# Altium schematic symbol library 卡槽卡座.SchLib: 1 symbol
Pins are listed as number, name and electrical type; pins without a type are passive.

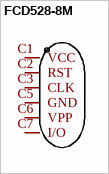
[diagram p0: symbol FCD528-8M]

## FCD528-8M
designator CARD?  (value not drawn)
Manufacturer: TXGA(特思嘉); Add into BOM: yes; Symbol: FCD528-8M; Device: FCD528-8M; LCSC Part Name: Mini SIM卡连接器 6触点(H1.8)(掀盖式); Supplier Part: C456406; Manufacturer Part: FCD528-8M; Supplier Footprint: SMD; JLCPCB Part Class: Extended Part; Datasheet: https://atta.szlcsc.com/upload/public/pdf/source/20191118/C456406_DD96F30E5E42D00446A5EA4509491B40.pdf; Supplier: LCSC; Convert to PCB: yes; Card Connection Mode: -; Card Type: -; Connector Type: -; Contact Material: -; Contact Plating: -
footprint SIM-SMD_FCD528-8M
pins: C1 VCC, C2 RST, C3 CLK, C5 GND, C6 VPP, C7 I/O